# Altium footprint library GNL-3012.PcbLib: 1 footprints
Each footprint in its own frame and in the unit in brackets; x right, y up, seen from the top. Pads: shape width x height; smd on the part's side, far side on the other; paste and mask are expansions set on the pad; w line width, h text height; cw(c..) or ccw(c..) is an arc to the next point about the centre after c.
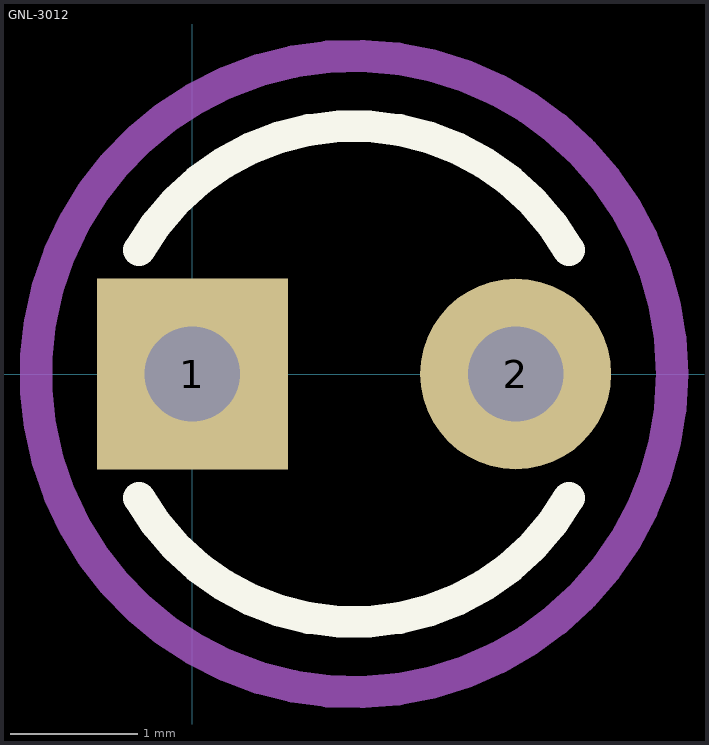
[diagram p0: the footprint, top view; thin cyan lines are the x and y axes]

## GNL-3012 [mm]
pads (2):
  rect 1.5x1.5 hole 0.75: 1(0,0)
  round 1.5 hole 0.75: 2(2.54,0)
Top Overlay:
  lines w0.25: -0.419,-0.975 ccw(c1.27,0) 2.959,-0.975 ; -0.419,0.975 cw(c1.27,0) 2.959,0.975
Mechanical 15:
  circle w0.254: c1.27,0 r2.5
3D body "led_3mm_red.STEP": height 5.49, standoff -4, extent -0.6,-1.87 2.77,1.87